# Altium schematic symbol library q410som.SchLib: 3 symbols
Pins are listed as number, name and electrical type; pins without a type are passive.

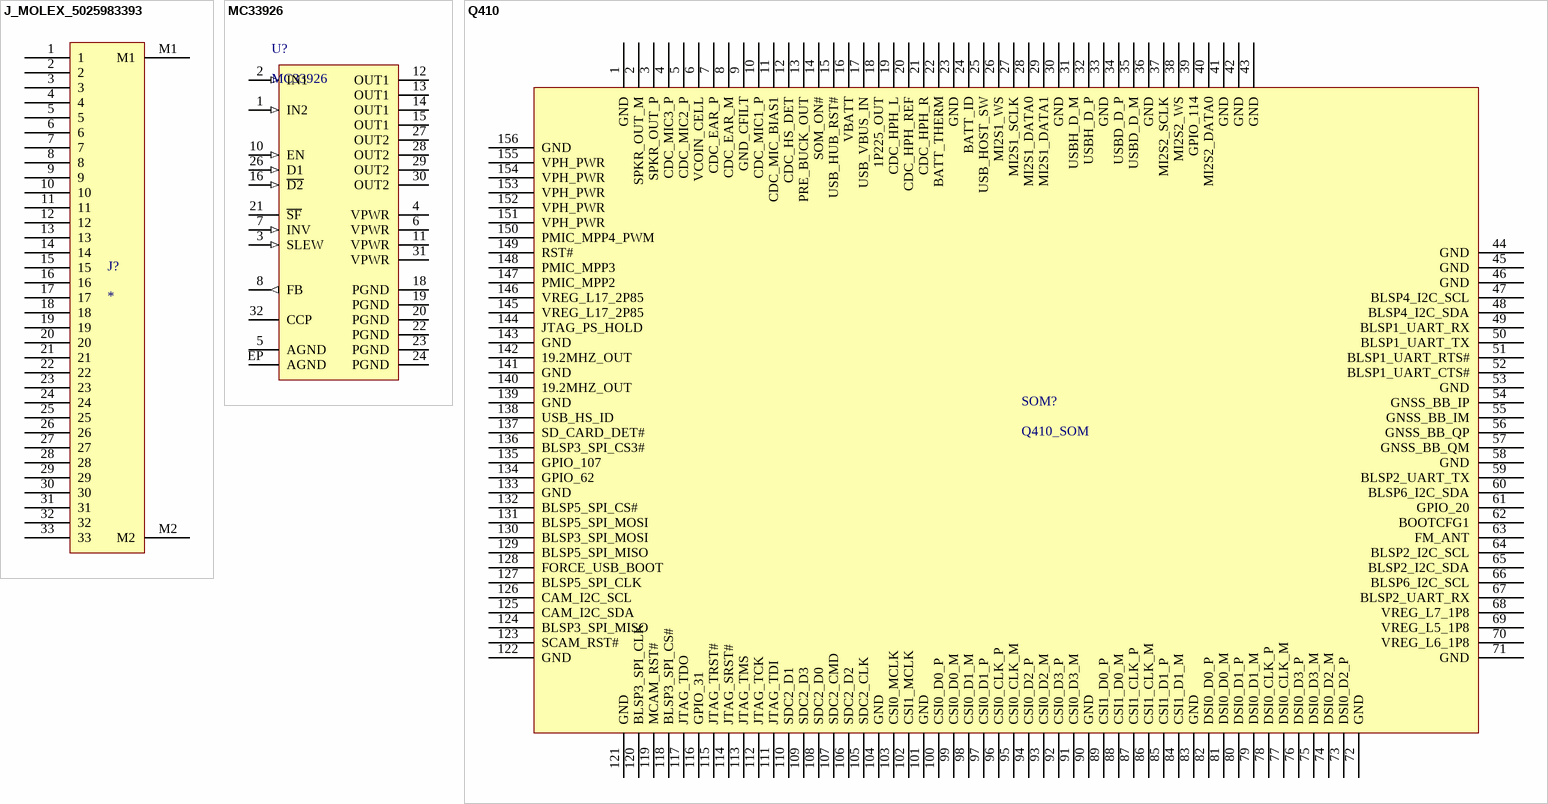
[diagram p0: symbols J_MOLEX_5025983393 to Q410]

## J_MOLEX_5025983393
designator J?
Molex 502598, 0.3mm pitch FPC/FFC, 33 connections
footprint J_MOLEX_50259833 (Molex 0.3mm pitch FPC/FFC, 33 connections)
pins: 1, 2, 3, 4, 5, 6, 7, 8, 9, 10, 11, 12, 13, 14, 15, 16, 17, 18, 19, 20, 21, 22, 23, 24, 25, 26, 27, 28, 29, 30, 31, 32, 33, M1, M2

## MC33926
designator U?
5A Throttle Control H-Bridge
footprint FREESCALE_32PQFN (Quad Flat No-Lead (QFN with Tab); 32 pin, 8.15 mm L X 8.15 mm W X 2.20 mm H body)
pins: 1 IN2 (in) "Logic input control of OUT2 (i.e., IN2 logic HIGH = OUT2 HIGH).", 2 IN1 (in) "Logic input control of OUT1 (i.e., IN1 logic HIGH = OUT1 HIGH).", 3 SLEW (in) "Slew Rate logic input. 0=slow. Internal pulldown.", 4 VPWR (power) "High Current Positive Supply", 5 AGND (power) "Low Power Analog Ground", 6 VPWR (power) "High Current Positive Supply", 7 INV (in) "Control Inversion input. 0=IN1/IN2 not inverted. Internal pull-down.", 8 FB (out) "Current sensing feedback output providing ground referenced 0.24% of H-Bridge high-side current.", 10 EN (in) "Logic input Enable control of device (i.e., EN logic HIGH = full operation, EN logic LOW = Sleep Mode).", 11 VPWR (power) "High Current Positive Supply", 12 OUT1 (hiz) "Output 1 of H-Bridge.", 13 OUT1 (hiz) "Output 1 of H-Bridge.", 14 OUT1 (hiz) "Output 1 of H-Bridge.", 15 OUT1 (hiz) "Output 1 of H-Bridge.", 16 ~{D2} (in) "Active LOW input used to simultaneously tri-state disable both H-Bridge outputs. When D\2\ is Logic LOW, both outputs are tri-stated.", 18 PGND (power) "High Current Return", 19 PGND (power) "High Current Return", 20 PGND (power) "High Current Return", 21 ~{SF} (oc) "Open drain active LOW Status Flag output requiring a pull-up resistor to 5.0 V.", 22 PGND (power) "High Current Return", 23 PGND (power) "High Current Return", 24 PGND (power) "High Current Return", 26 D1 (in) "Active HIGH input used to simultaneously tri-state disable both H-Bridge outputs. When D1 is Logic HIGH, both outputs are tri-stated.", 27 OUT2 (hiz) "Output 2 of H-Bridge.", 28 OUT2 (hiz) "Output 2 of H-Bridge.", 29 OUT2 (hiz) "Output 2 of H-Bridge.", 30 OUT2 (hiz) "Output 2 of H-Bridge.", 31 VPWR (power) "High Current Positive Supply", 32 CCP "External reservoir capacitor connection for internal charge pump capacitor.", EP AGND (power) "Low Power Analog Ground/Heatsink"

## Q410
designator SOM?, comment Q410_SOM
footprint Q410
pins: 1 GND (power), 2 SPKR_OUT_M, 3 SPKR_OUT_P, 4 CDC_MIC3_P, 5 CDC_MIC2_P, 6 VCOIN_CELL (power), 7 CDC_EAR_P, 8 CDC_EAR_M, 9 GND_CFILT (power), 10 CDC_MIC1_P, 11 CDC_MIC_BIAS1, 12 CDC_HS_DET, 13 PRE_BUCK_OUT, 14 SOM_ON#, 15 USB_HUB_RST#, 16 VBATT (power), 17 USB_VBUS_IN, 18 1P225_OUT, 19 CDC_HPH_L, 20 CDC_HPH_REF, 21 CDC_HPH_R, 22 BATT_THERM, 23 GND (power), 24 BATT_ID, 25 USB_HOST_SW, 26 MI2S1_WS, 27 MI2S1_SCLK, 28 MI2S1_DATA0, 29 MI2S1_DATA1, 30 GND (power), 31 USBH_D_M, 32 USBH_D_P, 33 GND (power), 34 USBD_D_P, 35 USBD_D_M, 36 GND (power), 37 MI2S2_SCLK, 38 MI2S2_WS, 39 GPIO_114, 40 MI2S2_DATA0, 41 GND (power), 42 GND (power), 43 GND (power), 44 GND (power), 45 GND (power), 46 GND (power), 47 BLSP4_I2C_SCL, 48 BLSP4_I2C_SDA, 49 BLSP1_UART_RX, 50 BLSP1_UART_TX, 51 BLSP1_UART_RTS#, 52 BLSP1_UART_CTS#, 53 GND (power), 54 GNSS_BB_IP, 55 GNSS_BB_IM, 56 GNSS_BB_QP, 57 GNSS_BB_QM, 58 GND (power), 59 BLSP2_UART_TX, 60 BLSP6_I2C_SDA, 61 GPIO_20, 62 BOOTCFG1, 63 FM_ANT, 64 BLSP2_I2C_SCL, 65 BLSP2_I2C_SDA, 66 BLSP6_I2C_SCL, 67 BLSP2_UART_RX, 68 VREG_L7_1P8, 69 VREG_L5_1P8, 70 VREG_L6_1P8, 71 GND (power), 72 GND (power), 73 DSI0_D2_P, 74 DSI0_D2_M, 75 DSI0_D3_M, 76 DSI0_D3_P, 77 DSI0_CLK_M, 78 DSI0_CLK_P, 79 DSI0_D1_M, 80 DSI0_D1_P, 81 DSI0_D0_M, 82 DSI0_D0_P, 83 GND (power), 84 CSI1_D1_M, 85 CSI1_D1_P, 86 CSI1_CLK_M, 87 CSI1_CLK_P, 88 CSI1_D0_M, 89 CSI1_D0_P, 90 GND (power), 91 CSI0_D3_M, 92 CSI0_D3_P, 93 CSI0_D2_M, 94 CSI0_D2_P, 95 CSI0_CLK_M, 96 CSI0_CLK_P, 97 CSI0_D1_P, 98 CSI0_D1_M, 99 CSI0_D0_M, 100 CSI0_D0_P, 101 GND (power), 102 CSI1_MCLK, 103 CSI0_MCLK, 104 GND (power), 105 SDC2_CLK, 106 SDC2_D2, 107 SDC2_CMD, 108 SDC2_D0, 109 SDC2_D3, 110 SDC2_D1, 111 JTAG_TDI, 112 JTAG_TCK, 113 JTAG_TMS, 114 JTAG_SRST#, 115 JTAG_TRST#, 116 GPIO_31, 117 JTAG_TDO, 118 BLSP3_SPI_CS#, 119 MCAM_RST#, 120 BLSP3_SPI_CLK, 121 GND (power), 122 GND (power), 123 SCAM_RST#, 124 BLSP3_SPI_MISO, 125 CAM_I2C_SDA, 126 CAM_I2C_SCL, 127 BLSP5_SPI_CLK, 128 FORCE_USB_BOOT, 129 BLSP5_SPI_MISO, 130 BLSP3_SPI_MOSI, 131 BLSP5_SPI_MOSI, 132 BLSP5_SPI_CS#, 133 GND (power), 134 GPIO_62, 135 GPIO_107, 136 BLSP3_SPI_CS3#, 137 SD_CARD_DET#, 138 USB_HS_ID, 139 GND (power), 140 19.2MHZ_OUT, 141 GND (power), 142 19.2MHZ_OUT, 143 GND (power), 144 JTAG_PS_HOLD, 145 VREG_L17_2P85, 146 VREG_L17_2P85, 147 PMIC_MPP2, 148 PMIC_MPP3, 149 RST#, 150 PMIC_MPP4_PWM, 151 VPH_PWR (power), 152 VPH_PWR (power), 153 VPH_PWR (power), 154 VPH_PWR (power), 155 VPH_PWR (power), 156 GND (power)